# EAGLE library part RADIATION-SENSOR-REV1 (library openct)
Header for Radiation Sensor (rev1)
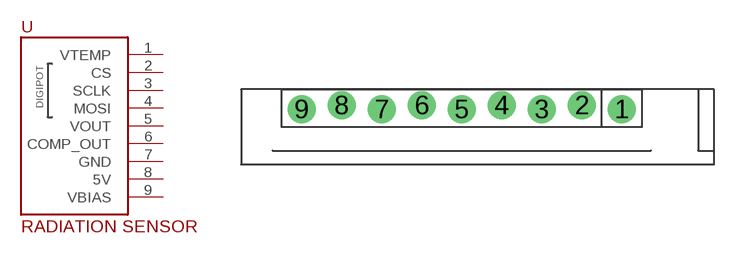
[diagram p7: symbol with the pads of RADIATION-SENSOR-REV1; footprint RADIATION-SENSOR-REV1]

Designator prefix -

## RADIATION-SENSOR-REV1  [RADIATION-SENSOR-REV1]
1  VTEMP
2  CS
3  SCLK
4  MOSI
5  VOUT
6  COMP_OUT
7  GND
8  5V
9  VBIAS

## Footprint RADIATION-SENSOR-REV1 (pad centres in mm)
drill 1.016 pad 1.778: 1 9.16,1.123; 2 6.62,1.377; 3 4.08,1.123; 4 1.54,1.377; 5 -1,1.123; 6 -3.54,1.377; 7 -6.08,1.123; 8 -8.62,1.377; 9 -11.16,1.123